# EAGLE library part LTC4060 (library linear-technology-3)
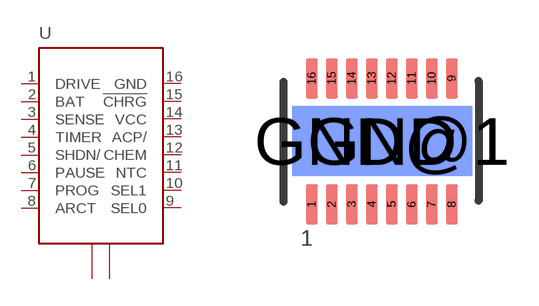
[diagram p57: symbol with the pads of DFN16; footprint DFN16]

Designator prefix -

## LTC4060DHC16  [DFN16]
1  DRIVE
2  BAT  pas
3  SENSE
4  TIMER  pas
5  SHDN/
6  PAUSE
7  PROG  pas
8  ARCT
9  SEL0
10  SEL1
11  NTC
12  CHEM
13  ACP/
14  VCC  pwr
15  !CHRG  oc
16  GND  pwr
GND  PAD  pwr
GND@1  PAD  pwr

## Footprint DFN16 (pad centres in mm)
smd 0.3 x 1: 1 -1.5,-1.377; 2 -1,-1.377; 3 -0.5,-1.377; 4 0,-1.377; 5 0.5,-1.377; 6 1,-1.377; 7 1.5,-1.377; 8 2,-1.377; 9 2,1.777; 10 1.5,1.777; 11 1,1.777; 12 0.5,1.777; 13 0,1.777; 14 -0.5,1.777; 15 -1,1.777; 16 -1.5,1.777
smd 4.5 x 1.75: GND 0.254,0.21
smd 4.5 x 1.75 bottom: GND@1 0.254,0.21